# EAGLE library part IC-SRAM-628128P-1M-128KB (library mylib)
MEMORY
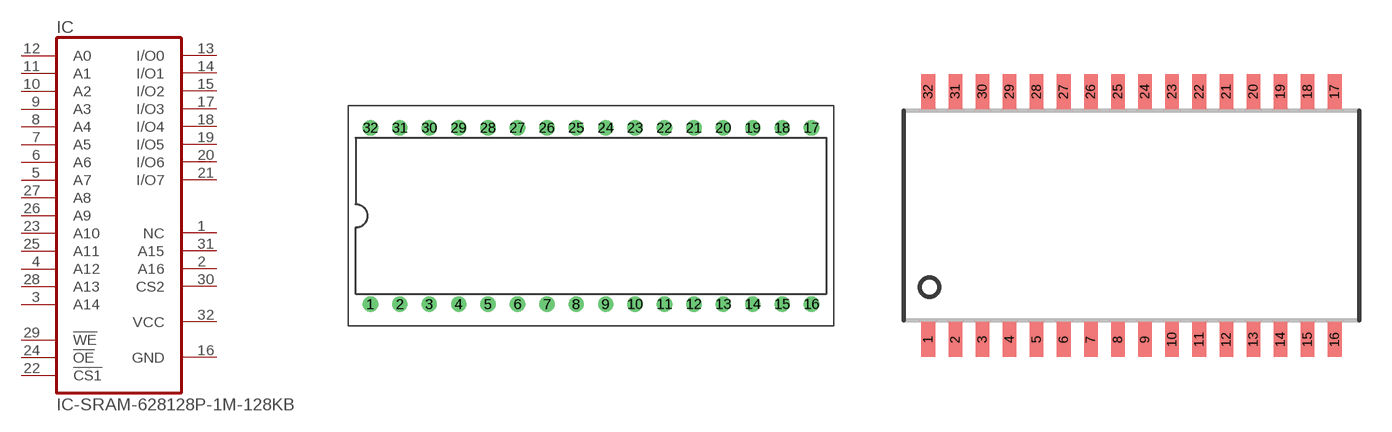
[diagram p60: symbol with the pads of IC-SOCKET-DIL-32-600MIL; footprints IC-SOCKET-DIL-32-600MIL, IC-32-1.27-600MIL]

Designator prefix IC

## IC-SRAM-628128P-1M-128KB-HENKAN  [IC-SOCKET-DIL-32-600MIL]
1  NC  nc
2  A16  in
3  A14  in
4  A12  in
5  A7  in
6  A6  in
7  A5  in
8  A4  in
9  A3  in
10  A2  in
11  A1  in
12  A0  in
13  I/O0
14  I/O1
15  I/O2
16  GND  pwr
17  I/O3
18  I/O4
19  I/O5
20  I/O6
21  I/O7
22  !CS1  in
23  A10  in
24  !OE  in
25  A11  in
26  A9  in
27  A8  in
28  A13  in
29  !WE  in
30  CS2  in
31  A15  in
32  VCC  pwr

## IC-SRAM-628128P-1M-128KB-FLAT  [IC-32-1.27-600MIL]
Pads as for IC-SOCKET-DIL-32-600MIL

## IC-SRAM-628128P-1M-128KB-HENKAN2  [BOARD-HENKAN-WDIP32]
Pads as for IC-SOCKET-DIL-32-600MIL

## Footprint IC-SOCKET-DIL-32-600MIL (pad centres in mm)
Dual In Line Package
drill 0.813: 1 -19.05,-7.62; 2 -16.51,-7.62; 3 -13.97,-7.62; 4 -11.43,-7.62; 5 -8.89,-7.62; 6 -6.35,-7.62; 7 -3.81,-7.62; 8 -1.27,-7.62; 9 1.27,-7.62; 10 3.81,-7.62; 11 6.35,-7.62; 12 8.89,-7.62; 13 11.43,-7.62; 14 13.97,-7.62; 15 16.51,-7.62; 16 19.05,-7.62; 17 19.05,7.62; 18 16.51,7.62; 19 13.97,7.62; 20 11.43,7.62; 21 8.89,7.62; 22 6.35,7.62; 23 3.81,7.62; 24 1.27,7.62; 25 -1.27,7.62; 26 -3.81,7.62; 27 -6.35,7.62; 28 -8.89,7.62; 29 -11.43,7.62; 30 -13.97,7.62; 31 -16.51,7.62; 32 -19.05,7.62

## Footprint IC-32-1.27-600MIL (pad centres in mm)
smd 0.635 x 1.651: 1 -10.16,-6.452; 2 -8.89,-6.452; 3 -7.62,-6.452; 4 -6.35,-6.452; 5 -5.08,-6.452; 6 -3.81,-6.452; 7 -2.54,-6.452; 8 -1.27,-6.452; 9 0,-6.452; 10 1.27,-6.452; 11 2.54,-6.452; 12 3.81,-6.452; 13 5.08,-6.452; 14 6.35,-6.452; 15 7.62,-6.452; 16 8.89,-6.452; 17 8.89,5.183; 18 7.62,5.183; 19 6.35,5.183; 20 5.08,5.183; 21 3.81,5.183; 22 2.54,5.183; 23 1.27,5.183; 24 0,5.183; 25 -1.27,5.183; 26 -2.54,5.183; 27 -3.81,5.183; 28 -5.08,5.183; 29 -6.35,5.183; 30 -7.62,5.183; 31 -8.89,5.183; 32 -10.16,5.183

## Footprint BOARD-HENKAN-WDIP32 (pad centres in mm)
***FIXME*** BOARD SIZE CHECK NEEDED PIN NUMBER CHECK NEEDED
drill 0.889 square: 1 -12.7,7.62; 32 12.7,7.62
drill 0.889: 2 -15.24,7.62; 3 -12.7,5.08; 4 -15.24,5.08; 5 -12.7,2.54; 6 -15.24,2.54; 7 -12.7,0; 8 -15.24,0; 9 -12.7,-2.54; 10 -15.24,-2.54; 11 -12.7,-5.08; 12 -15.24,-5.08; 13 -12.7,-7.62; 14 -15.24,-7.62; 15 -12.7,-10.16; 16 -15.24,-10.16; 17 15.24,-10.16; 18 12.7,-10.16; 19 15.24,-7.62; 20 12.7,-7.62; 21 15.24,-5.08; 22 12.7,-5.08; 23 15.24,-2.54; 24 12.7,-2.54; 25 15.24,0; 26 12.7,0; 27 15.24,2.54; 28 12.7,2.54; 29 15.24,5.08; 30 12.7,5.08; 31 15.24,7.62